# Altium footprint library connectors.PcbLib: 23 footprints (part 1 of 2)
Each footprint in its own frame and in the unit in brackets; x right, y up, seen from the top. Pads: shape width x height; smd on the part's side, far side on the other; paste and mask are expansions set on the pad; w line width, h text height; cw(c..) or ccw(c..) is an arc to the next point about the centre after c.
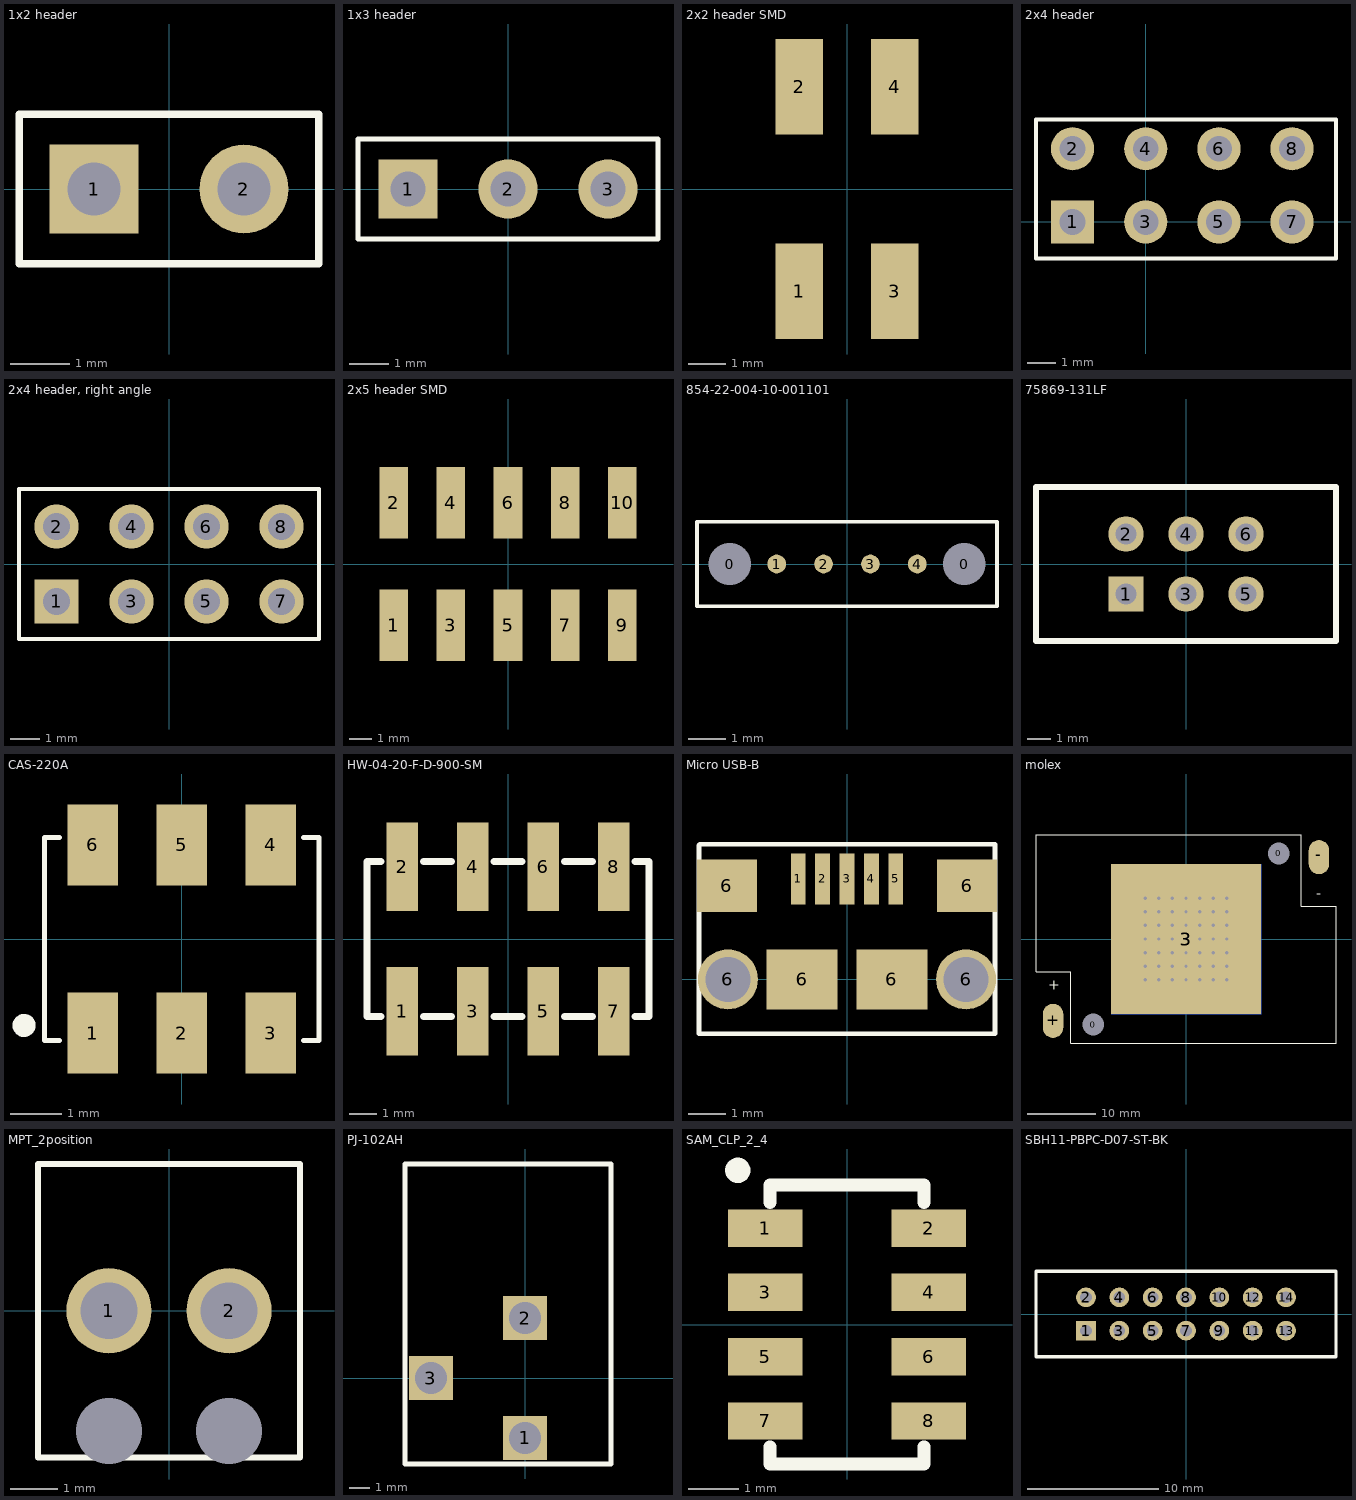
[diagram p0: the footprints below, top view; thin cyan lines are the x and y axes]

## 1x2 header [mm] "1x2 header, 100 mils"
pads (2):
  rect 1.5x1.5 hole 0.9: 1(-1.27,0)
  round 1.5 hole 0.9: 2(1.27,0)
Top Overlay:
  lines w0.127: -2.54,-1.27 2.54,-1.27 2.54,1.27 -2.54,1.27 -2.54,-1.27
3D body: height 8.38, standoff -1.52, extent 0.965,-0.305 1.575,0.305
3D body: height 8.38, standoff -1.52, extent -1.575,-0.305 -0.965,0.305
3D body: height 2.54, standoff 0, extent -2.53,-1.26 2.53,1.26

## 1x3 header [mm] "1x3 header, 100 mils"
pads (3):
  rect 1.5x1.5 hole 0.9: 1(-2.54,0)
  round 1.5 hole 0.9: 2(0,0) 3(2.54,0)
Top Overlay:
  lines w0.127: -3.81,-1.27 -3.81,1.27 3.81,1.27 3.81,-1.27 -3.81,-1.27
3D body: height 2.54, standoff 0, extent -3.8,-1.25 3.8,1.25
3D body: height 8.38, standoff -1.52, extent -2.845,-0.305 -2.235,0.305
3D body: height 8.38, standoff -1.52, extent -0.305,-0.305 0.305,0.305
3D body: height 8.38, standoff -1.52, extent 2.235,-0.305 2.845,0.305

## 2x2 header SMD [mm] "100 mils header, SMD"
pads (4):
  rect 1.27x2.54 smd: 1(-1.27,-2.73) 2(-1.27,2.73) 3(1.27,-2.73) 4(1.27,2.73)
3D body: height 3.8, standoff 1.26, extent -2.54,-2.413 2.54,2.413
3D body: height 0.62, standoff 0, extent -1.575,0.965 -0.965,3.429
3D body: height 0.62, standoff 0, extent 0.965,0.965 1.575,3.429
3D body: height 0.62, standoff 0, extent 0.965,-3.429 1.575,-0.965
3D body: height 0.62, standoff 0, extent -1.575,-3.429 -0.965,-0.965
3D body: height 9.7, standoff 0, extent -1.575,-1.575 -0.965,-0.965
3D body: height 9.7, standoff 0, extent 0.965,-1.575 1.575,-0.965
3D body: height 9.7, standoff 0, extent 0.965,0.965 1.575,1.575
3D body: height 9.7, standoff 0, extent -1.575,0.965 -0.965,1.575

## 2x4 header [mm] "2x4 header, 100 mils"
pads (8):
  rect 1.5x1.5 hole 0.9: 1(-2.54,0)
  round 1.5 hole 0.9: 2(-2.54,2.54) 3(0,0) 4(0,2.54) 5(2.54,0) 6(2.54,2.54) 7(5.08,0) 8(5.08,2.54)
Top Overlay:
  lines w0.127: -3.81,-1.27 -3.81,3.556 6.604,3.556 6.604,-1.27 -3.81,-1.27
3D body: height 8.38, standoff -1.52, extent 4.775,2.235 5.385,2.845
3D body: height 8.38, standoff -1.52, extent 4.775,-0.305 5.385,0.305
3D body: height 2.54, standoff 0, extent -3.8,-1.25 6.604,3.556
3D body: height 8.38, standoff -1.52, extent -2.845,-0.305 -2.235,0.305
3D body: height 8.38, standoff -1.52, extent -0.305,-0.305 0.305,0.305
3D body: height 8.38, standoff -1.52, extent 2.235,-0.305 2.845,0.305
3D body: height 8.38, standoff -1.52, extent 2.235,2.235 2.845,2.845
3D body: height 8.38, standoff -1.52, extent -0.305,2.235 0.305,2.845
3D body: height 8.38, standoff -1.52, extent -2.845,2.235 -2.235,2.845

## 2x4 header, right angle [mm] "2x4 header, 100 mils, right angle"
pads (8):
  rect 1.5x1.5 hole 0.9: 1(-3.81,-1.27)
  round 1.5 hole 0.9: 2(-3.81,1.27) 3(-1.27,-1.27) 4(-1.27,1.27) 5(1.27,-1.27) 6(1.27,1.27) 7(3.81,-1.27) 8(3.81,1.27)
Top Overlay:
  lines w0.127: -5.08,-2.54 -5.08,2.54 5.08,2.54 5.08,-2.54 -5.08,-2.54
3D body: height 1.78, standoff -1.52, extent 3.505,-1.575 4.115,-0.965
3D body: height 1.78, standoff -1.52, extent 0.965,-1.575 1.575,-0.965
3D body: height 1.78, standoff -1.52, extent -1.575,-1.575 -0.965,-0.965
3D body: height 1.78, standoff -1.52, extent -4.115,-1.575 -3.505,-0.965
3D body: height 4.32, standoff -1.52, extent 3.505,0.965 4.115,1.575
3D body: height 4.32, standoff -1.52, extent 0.965,0.965 1.575,1.575
3D body: height 4.32, standoff -1.52, extent -1.575,0.965 -0.965,1.575
3D body: height 4.32, standoff -1.52, extent -4.115,0.965 -3.505,1.575
3D body: height 5, standoff 0, extent -5.085,-5.335 5.08,-2.794
3D body: height 4.32, standoff 3.68, extent -4.12,-11.182 -3.499,1.575
3D body: height 1.78, standoff 1.14, extent 0.96,-11.192 1.581,-0.949
3D body: height 1.78, standoff 1.14, extent 3.5,-11.192 4.121,-0.949
3D body: height 1.78, standoff 1.14, extent -4.12,-11.207 -3.499,-0.965
3D body: height 1.78, standoff 1.14, extent -1.58,-11.192 -0.959,-0.949
3D body: height 4.32, standoff 3.68, extent -1.58,-11.182 -0.959,1.575
3D body: height 4.32, standoff 3.68, extent 3.5,-11.179 4.121,1.578
3D body: height 4.32, standoff 3.68, extent 0.96,-11.179 1.581,1.578

## 2x5 header SMD [mil] "100 mils header, SMD"
pads (10):
  rect 50x125 smd: 1(-200,-107.5) 2(-200,107.5) 3(-100,-107.5) 4(-100,107.5) 5(0,-107.5) 6(0,107.5) 7(100,-107.5) 8(100,107.5) 9(200,-107.5) 10(200,107.5)
3D body: height 149.61, standoff 49.61, extent -250,-95 250,95
3D body: height 381.89, standoff 0, extent -212,38 -188,62
3D body: height 381.89, standoff 0, extent -112,38 -88,62
3D body: height 381.89, standoff 0, extent -112,-62 -88,-38
3D body: height 381.89, standoff 0, extent -212,-62 -188,-38
3D body: height 24.41, standoff 0, extent -212,-135 -188,-38
3D body: height 24.41, standoff 0, extent -112,-135 -88,-38
3D body: height 24.41, standoff 0, extent -112,38 -88,135
3D body: height 24.41, standoff 0, extent -212,38 -188,135
3D body: height 24.41, standoff 0, extent -12,38 12,135
3D body: height 381.89, standoff 0, extent -12,38 12,62
3D body: height 24.41, standoff 0, extent 88,38 112,135
3D body: height 381.89, standoff 0, extent 88,38 112,62
3D body: height 24.41, standoff 0, extent 188,38 212,135
3D body: height 381.89, standoff 0, extent 188,38 212,62
3D body: height 24.41, standoff 0, extent -12,-135 12,-38
3D body: height 381.89, standoff 0, extent -12,-62 12,-38
3D body: height 24.41, standoff 0, extent 88,-135 112,-38
3D body: height 381.89, standoff 0, extent 88,-62 112,-38
3D body: height 24.41, standoff 0, extent 188,-135 212,-38
3D body: height 381.89, standoff 0, extent 188,-62 212,-38

## 854-22-004-10-001101 [mil] "Spring loaded connector"
pads (6):
  round 20 hole 45: 0(-125,0) 0(125,0)
  round 20 smd: 1(-75,0) 2(-25,0) 3(25,0) 4(75,0)
Top Overlay:
  lines w3.94: -160,-45 160,-45 160,45 -160,45 -160,-45

## 75869-131LF [mm] "CONN HEADER 2.54MM 6POS"
pads (6):
  rect 1.5x1.5 hole 0.9: 1(-2.54,-1.27)
  round 1.5 hole 0.9: 2(-2.54,1.27) 3(0,-1.27) 4(0,1.27) 5(2.54,-1.27) 6(2.54,1.27)
Top Overlay:
  lines w0.254: -6.35,-3.251 6.35,-3.251 6.35,3.251 -6.35,3.251 -6.35,-3.251
3D body: height 2, standoff 0, extent -6.35,-3.251 6.35,3.251
3D body: height 10.11, standoff -3.2, extent -2.743,-1.473 -2.337,-1.067
3D body: height 10.11, standoff -3.2, extent -0.203,-1.473 0.203,-1.067
3D body: height 10.11, standoff -3.2, extent -2.743,1.067 -2.337,1.473
3D body: height 10.11, standoff -3.2, extent -0.203,1.067 0.203,1.473
3D body: height 10.11, standoff -3.2, extent 2.337,1.067 2.743,1.473
3D body: height 10.11, standoff -3.2, extent 2.337,-1.473 2.743,-1.067
3D body: height 10.74, standoff 0, extent -6.35,-3.251 -5.969,3.251
3D body: height 10.74, standoff 0, extent 5.969,-3.251 6.35,3.251
3D body: height 10.74, standoff 0, extent -6.35,2.87 6.35,3.251
3D body: height 10.74, standoff 0, extent -6.35,-3.251 -2.54,-2.87
3D body: height 10.74, standoff 0, extent 2.54,-3.251 6.35,-2.87

## CAS-220A [mm] "CAS-220A"
pads (6):
  rect 1x1.6 smd: 1(-1.75,-1.85) 2(0,-1.85) 3(1.75,-1.85) 4(1.75,1.85) 5(0,1.85) 6(-1.75,1.85)
Top Overlay:
  circle w0.254: c-3.1,-1.7 r0.1
  lines w0.1: -2.4,-2 -2.7,-2 -2.7,2 -2.4,2 ; 2.4,-2 2.7,-2 2.7,2 2.4,2
3D body: height 2.5, standoff 0, extent -2.7,-2 2.7,2

## HW-04-20-F-D-900-SM [mm] "Samtec 100 mil 2x4 header"
pads (8):
  rect 1.14x3.175 smd: 1(-3.81,-2.602) 2(-3.81,2.603) 3(-1.27,-2.602) 4(-1.27,2.603) 5(1.27,-2.602) 6(1.27,2.603) 7(3.81,-2.602) 8(3.81,2.603)
Top Overlay:
  lines w0.254: -4.572,-2.794 -5.08,-2.794 -5.08,2.794 -4.572,2.794 ; -3.048,-2.794 -2.032,-2.794 ; -3.048,2.794 -2.032,2.794 ; -0.508,-2.794 0.508,-2.794 ; -0.508,2.794 0.508,2.794 ; 2.032,-2.794 3.048,-2.794 ; 2.032,2.794 3.048,2.794 ; 4.572,-2.794 5.08,-2.794 5.08,2.794 4.572,2.794
3D body: height 2.54, standoff 0, extent -5.08,-2.794 5.08,2.794
3D body: height 23, standoff 0, extent -4.115,0.965 -3.505,1.575
3D body: height 23, standoff 0, extent -1.575,0.965 -0.965,1.575
3D body: height 23, standoff 0, extent 0.965,0.965 1.575,1.575
3D body: height 23, standoff 0, extent 3.505,0.965 4.115,1.575
3D body: height 23, standoff 0, extent -4.115,-1.575 -3.505,-0.965
3D body: height 23, standoff 0, extent -1.575,-1.575 -0.965,-0.965
3D body: height 23, standoff 0, extent 0.965,-1.575 1.575,-0.965
3D body: height 23, standoff 0, extent 3.505,-1.575 4.115,-0.965

## Micro USB-B [mm]
pads (11):
  rect 0.4x1.35 smd mask+0.1: 1(-1.3,2.675) 2(-0.65,2.675) 3(0,2.675) 4(0.65,2.675) 5(1.3,2.675)
  rect 1.6x1.4 smd mask+0.1: 6(-3.2,2.5) 6(3.2,2.5)
  round 1.6 hole 1.2: 6(-3.175,0) 6(3.175,0)
  rect 1.9x1.6 smd mask+0.1: 6(-1.2,0) 6(1.2,0)
Top Overlay:
  lines w0.127: -3.95,-1.45 3.95,-1.45 3.95,3.6 -3.925,3.6 -3.95,3.575 -3.95,-1.45
3D body: height 2.68, standoff -0.63, extent -4.1,-2.54 4.1,2.89

## molex [mm] "CREE LED holder"
pads (6):
  oval 1.7x2.8 hole 3.175: 0(-13.61,-12.54) 0(13.61,12.54)
  rect 22x22 smd: 3(0,0)
  rect 22x22 smd far side: 3(0,0)
  oval 3x5 smd: +(-19.5,-12) -(19.5,12)
via 0,0 diameter 1.016 hole 0.508
via 2,0 diameter 1.016 hole 0.508
via 4,0 diameter 1.016 hole 0.508
via 6,0 diameter 1.016 hole 0.508
via -2,0 diameter 1.016 hole 0.508
via -4,0 diameter 1.016 hole 0.508
via -6,0 diameter 1.016 hole 0.508
via -6,2 diameter 1.016 hole 0.508
via -4,2 diameter 1.016 hole 0.508
via -2,2 diameter 1.016 hole 0.508
via 6,2 diameter 1.016 hole 0.508
via 4,2 diameter 1.016 hole 0.508
via 2,2 diameter 1.016 hole 0.508
via 0,2 diameter 1.016 hole 0.508
via -6,4 diameter 1.016 hole 0.508
via -4,4 diameter 1.016 hole 0.508
via -2,4 diameter 1.016 hole 0.508
via 6,4 diameter 1.016 hole 0.508
via 4,4 diameter 1.016 hole 0.508
via 2,4 diameter 1.016 hole 0.508
via 0,4 diameter 1.016 hole 0.508
via -6,-2 diameter 1.016 hole 0.508
via -4,-2 diameter 1.016 hole 0.508
via -2,-2 diameter 1.016 hole 0.508
via 6,-2 diameter 1.016 hole 0.508
via 4,-2 diameter 1.016 hole 0.508
via 2,-2 diameter 1.016 hole 0.508
via 0,-2 diameter 1.016 hole 0.508
via -6,-4 diameter 1.016 hole 0.508
via -4,-4 diameter 1.016 hole 0.508
via -2,-4 diameter 1.016 hole 0.508
via 6,-4 diameter 1.016 hole 0.508
via 4,-4 diameter 1.016 hole 0.508
via 2,-4 diameter 1.016 hole 0.508
via 0,-4 diameter 1.016 hole 0.508
via -6,-6 diameter 1.016 hole 0.508
via -4,-6 diameter 1.016 hole 0.508
via -2,-6 diameter 1.016 hole 0.508
via 6,-6 diameter 1.016 hole 0.508
via 4,-6 diameter 1.016 hole 0.508
via 2,-6 diameter 1.016 hole 0.508
via 0,-6 diameter 1.016 hole 0.508
via -6,6 diameter 1.016 hole 0.508
via -4,6 diameter 1.016 hole 0.508
via -2,6 diameter 1.016 hole 0.508
via 6,6 diameter 1.016 hole 0.508
via 4,6 diameter 1.016 hole 0.508
via 2,6 diameter 1.016 hole 0.508
via 0,6 diameter 1.016 hole 0.508
Top Overlay:
  lines w0.1: -22,-4.775 -22,15.3 16.875,15.3 16.875,4.8 22,4.8 22,-15.3 -16.9,-15.3 -16.9,-4.775 -22,-4.775
  text "-" at 19.075,5.975 h1.52
  text "+" at -20.175,-7.425 h1.52
3D body: height 4.5, standoff 0, extent -11.925,-15.3 11.925,-11.925
3D body: height 4.5, standoff 0, extent -11.925,11.925 11.925,15.3
3D body: height 4.5, standoff 0, extent 11.925,-15.3 22,15.3
3D body: height 1.91, standoff 0, extent -11.925,-11.925 11.925,11.925
3D body: height 4.5, standoff 0, extent -22,-15.3 -11.925,15.3

## MPT_2position [mm] "Screw connector 2 pos"
pads (4):
  round 1.8 hole 1.2: 1(-1.27,0) 2(1.27,0)
  round 0 hole 1.4: ""(-1.27,-2.54) ""(1.27,-2.54)
Top Overlay:
  lines w0.127: -2.77,-3.1 2.77,-3.1 2.77,3.1 -2.77,3.1 -2.77,-3.1

## PJ-102AH [mm] "Power Jack"
pads (3):
  rect 2.2x2.2 hole 1.6: 1(0,-3) 2(0,3) 3(-4.7,0)
Top Overlay:
  lines w0.254: -6,-4.3 -6,0 -6,10.7 4.3,10.7 4.3,-4.3 -6,-4.3
3D body: height 3, standoff 0, extent -5.75,-3.987 4.075,10.888
3D body: height 8.39, standoff 0.01, extent -4.975,-3.85 3.392,9.15
3D body: height 10, standoff 0, extent -5.75,9.15 4.075,10.888

## SAM_CLP_2_4 [mm]
pads (8):
  rect 1.47x0.74 smd: 1(-1.615,1.905) 2(1.615,1.905) 3(-1.615,0.635) 4(1.615,0.635) 5(-1.615,-0.635) 6(1.615,-0.635) 7(-1.615,-1.905) 8(1.615,-1.905)
Top Overlay:
  circle w0.25: c-2.157,3.048 r0.125
  lines w0.254: -1.525,-2.413 -1.525,-2.755 1.525,-2.755 1.525,-2.413 ; -1.525,2.413 -1.525,2.755 1.525,2.755 1.525,2.413
3D body: height 2.29, standoff 0.25, extent -1.525,-2.755 1.525,2.755

## SBH11-PBPC-D07-ST-BK [mm] "CONN HEADER 2.54MM 14POS"
pads (14):
  rect 1.5x1.5 hole 0.9: 1(-7.62,-1.27)
  round 1.5 hole 0.9: 2(-7.62,1.27) 3(-5.08,-1.27) 4(-5.08,1.27) 5(-2.54,-1.27) 6(-2.54,1.27) 7(0,-1.27) 8(0,1.27) 9(2.54,-1.27) 10(2.54,1.27) 11(5.08,-1.27) 12(5.08,1.27) 13(7.62,-1.27) 14(7.62,1.27)
Top Overlay:
  lines w0.254: -11.43,-3.251 -11.43,3.251 11.43,3.251 11.43,-3.251 -11.43,-3.251
3D body: height 10.74, standoff 0, extent 2.54,-3.251 11.43,-2.87
3D body: height 10.74, standoff 0, extent -11.43,-3.251 -2.54,-2.87
3D body: height 10.74, standoff 0, extent -11.43,2.87 11.43,3.251
3D body: height 10.74, standoff 0, extent 11.049,-3.251 11.43,3.251
3D body: height 10.74, standoff 0, extent -11.43,-3.251 -11.049,3.251
3D body: height 10.11, standoff -3.2, extent 7.417,-1.473 7.823,-1.067
3D body: height 10.11, standoff -3.2, extent 7.417,1.067 7.823,1.473
3D body: height 10.11, standoff -3.2, extent 4.877,1.067 5.283,1.473
3D body: height 10.11, standoff -3.2, extent 4.877,-1.473 5.283,-1.067
3D body: height 10.11, standoff -3.2, extent 2.337,-1.473 2.743,-1.067
3D body: height 10.11, standoff -3.2, extent 2.337,1.067 2.743,1.473
3D body: height 10.11, standoff -3.2, extent -0.203,1.067 0.203,1.473
3D body: height 10.11, standoff -3.2, extent -0.203,-1.473 0.203,-1.067
3D body: height 10.11, standoff -3.2, extent -2.743,-1.473 -2.337,-1.067
3D body: height 10.11, standoff -3.2, extent -2.743,1.067 -2.337,1.473
3D body: height 10.11, standoff -3.2, extent -5.283,1.067 -4.877,1.473
3D body: height 10.11, standoff -3.2, extent -7.823,1.067 -7.417,1.473
3D body: height 10.11, standoff -3.2, extent -5.283,-1.473 -4.877,-1.067
3D body: height 10.11, standoff -3.2, extent -7.823,-1.473 -7.417,-1.067
3D body: height 2, standoff 0, extent -11.43,-3.251 11.43,3.251